# EAGLE library part MAX31856 (library ThermoBot)
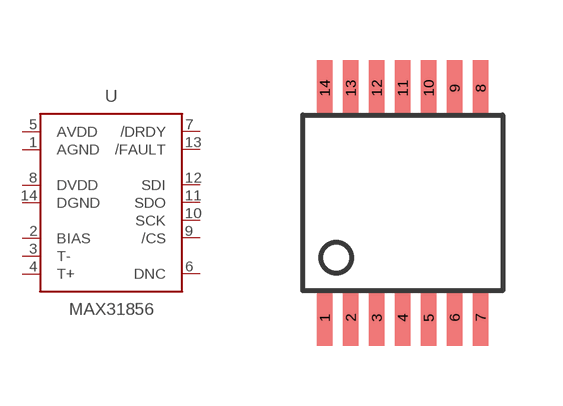
[diagram p0: symbol with the pads of TSSOP14; footprint TSSOP14]

Designator prefix -

## MAX31856 (MPN: MAX31856MUD+; PN-DK: MAX31856MUD+-ND)  [TSSOP14]
1  AGND  pwr
2  BIAS
3  T-
4  T+
5  AVDD  pwr
6  DNC  nc
7  /DRDY
8  DVDD  pwr
9  /CS
10  SCK
11  SDO
12  SDI
13  /FAULT
14  DGND  pwr

## Footprint TSSOP14 (pad centres in mm)
smd 0.38 x 1.4: 1 -1.95,-2.875; 2 -1.3,-2.875; 3 -0.65,-2.875; 4 0,-2.875; 5 0.65,-2.875; 6 1.3,-2.875; 7 1.95,-2.875; 8 1.95,2.875; 9 1.3,2.875; 10 0.65,2.875; 11 0,2.875; 12 -0.65,2.875; 13 -1.3,2.875; 14 -1.95,2.875